# Altium footprint library R8 Bran.PcbLib: 70 footprints (part 4 of 5)
Each footprint in its own frame and in the unit in brackets; x right, y up, seen from the top. Pads: shape width x height; smd on the part's side, far side on the other; paste and mask are expansions set on the pad; w line width, h text height; cw(c..) or ccw(c..) is an arc to the next point about the centre after c.
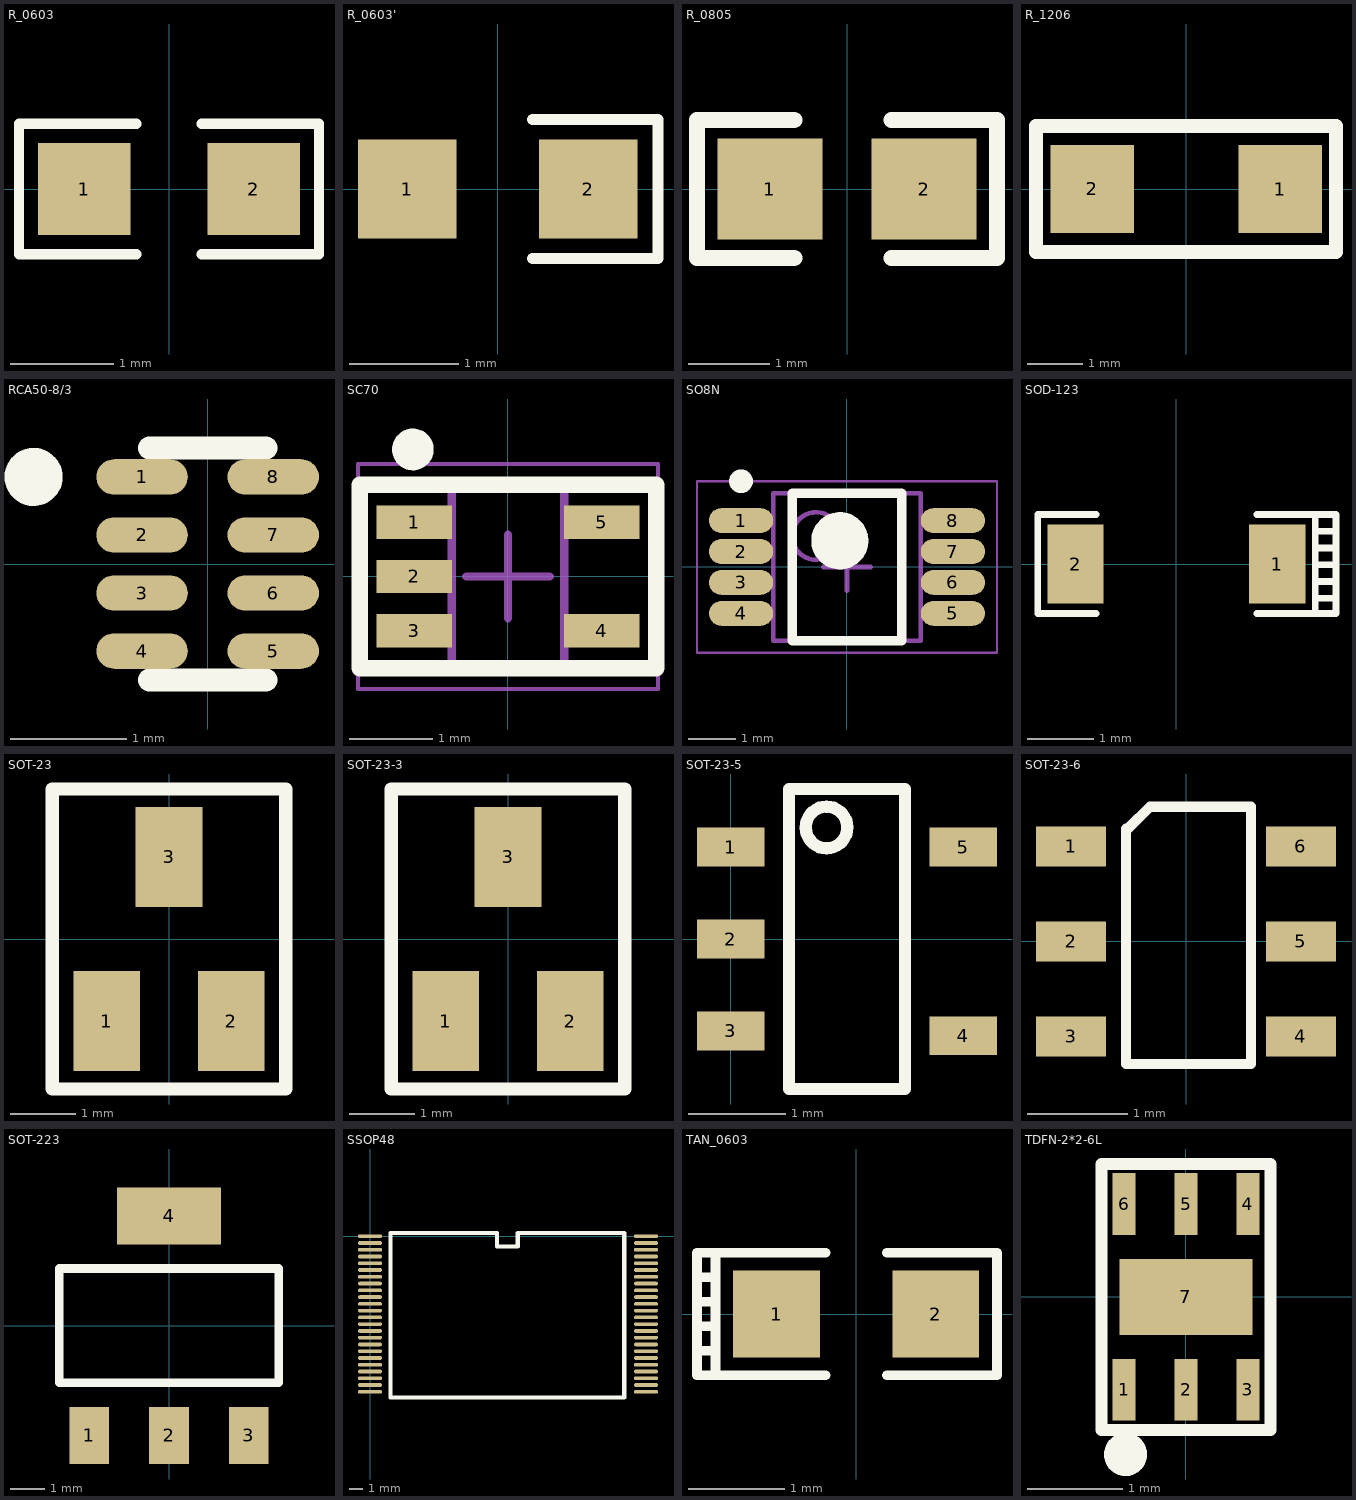
[diagram p3: the footprints below, top view; thin cyan lines are the x and y axes]

## R_0603 [mm]
pads (2):
  rect 0.9x0.9 smd: 1(-0.826,0) 2(0.826,0)
Top Overlay:
  lines w0.102: -0.318,-0.635 -1.46,-0.635 -1.46,0.635 -0.318,0.635 ; 0.318,-0.635 1.46,-0.635 1.46,0.635 0.318,0.635
3D body: height 0.9, standoff 0, extent -1.377,-0.552 1.377,0.552

## R_0603' [mm]
pads (2):
  rect 0.9x0.9 smd: 1(-0.826,0) 2(0.826,0)
Top Overlay:
  lines w0.102: 0.318,-0.635 1.46,-0.635 1.46,0.635 0.318,0.635
3D body: height 0.9, standoff 0, extent -1.377,-0.552 1.377,0.552

## R_0805 [mm]
pads (2):
  rect 1.3x1.25 smd: 1(-0.95,0) 2(0.95,0)
Top Overlay:
  lines w0.2: -0.65,-0.85 -1.85,-0.85 -1.85,0.85 -0.65,0.85 ; 0.55,-0.85 1.85,-0.85 1.85,0.85 0.55,0.85
3D body: height 0.6, standoff 0, extent -1.702,-0.727 1.702,0.727

## R_1206 [mm]
height 0.8
pads (2):
  rect 1.52x1.6 smd: 1(1.71,0) 2(-1.71,0)
Top Overlay:
  lines w0.254: -2.735,-1.143 2.726,-1.143 2.726,1.143 -2.735,1.143 -2.735,-1.143
3D body: height 0.9, standoff 0, extent -2.572,-0.902 2.572,0.902

## RCA50-8/3 [mil]
pads (8):
  oval 31x12 smd: 1(-22.23,29.53) 2(-22.23,9.84) 3(-22.23,-9.84) 4(-22.23,-29.53) 5(22.25,-29.53) 6(22.25,-9.84) 7(22.25,9.84) 8(22.25,29.53)
Top Overlay:
  circle w9.84: c-59.05,29.53 r4.93
  circle w9.84: c-59.05,29.53 r4.93
  lines w7.87: -19.68,-39.37 19.69,-39.37 ; -19.68,39.37 19.69,39.37 ; -14.76,-39.37 14.77,-39.37 ; -14.76,39.37 14.77,39.37
3D body: height 11.81, standoff 0, extent -41.73,-39.53 41.75,39.53

## SC70 [mm]
pads (5):
  rect 0.9x0.4 smd: 1(-1.125,0.65) 2(-1.125,0) 3(-1.125,-0.65) 4(1.125,-0.65) 5(1.125,0.65)
Top Overlay:
  circle w0.25: c-1.141,1.524 r0.125
  lines w0.2: -1.778,-1.1 -1.778,1.1 1.778,1.1 1.778,-1.1 -1.778,-1.1
Mechanical 13:
  lines w0.1: -0.675,-1.1 0.675,-1.1 0.675,1.1 -0.675,1.1 -0.675,-1.1
Mechanical 15:
  lines w0.05: -1.8,-1.35 1.8,-1.35 1.8,1.35 -1.8,1.35 -1.8,-1.35
  lines w0.1: -0.5,0 0.5,0 ; 0,-0.5 0,0.5
3D body: height 1.1, standoff 0, extent -0.675,-1.1 0.675,1.1

## SO8N [mm] "TSOP, 8-Leads, Body 3.00x3.00mm, Pitch 0.65mm, IPC Medium Density"
height 1.1
pads (8):
  oval 1.35x0.52 smd: 1(-2.225,0.975) 2(-2.225,0.325) 3(-2.225,-0.325) 4(-2.225,-0.975) 5(2.225,-0.975) 6(2.225,-0.325) 7(2.225,0.325) 8(2.225,0.975)
Top Overlay:
  circle w0.6: c-0.15,0.55 r0.3
  circle w0.25: c-2.225,1.8 r0.125
  lines w0.2: -1.15,-1.55 1.15,-1.55 1.15,1.55 -1.15,1.55 -1.15,-1.55
Mechanical 13:
  circle w0.1: c-0.65,0.65 r0.5
  lines w0.1: -1.55,-1.55 1.55,-1.55 1.55,1.55 -1.55,1.55 -1.55,-1.55
Mechanical 15:
  lines w0.05: -3.15,-1.8 3.15,-1.8 3.15,1.8 -3.15,1.8 -3.15,-1.8
  lines w0.1: -0.5,0 0.5,0 ; 0,-0.5 0,0.5
3D body: height 1.1, standoff 0.05, extent -1.55,-1.55 1.55,1.55

## SOD-123 [mm]
pads (2):
  rect 0.85x1.2 smd: 1(1.525,0) 2(-1.525,0)
Top Overlay:
  lines w0.102: -1.215,-0.75 -2.1,-0.75 -2.1,0.75 -1.215,0.75 ; 1.215,-0.75 2.1,-0.75 ; 1.215,0.75 2.1,0.75 ; 2.1,-0.52 2.414,-0.52 ; 2.1,-0.266 2.414,-0.266 ; 2.1,-0.012 2.414,-0.012 ; 2.1,0.242 2.414,0.242 ; 2.1,0.496 2.414,0.496 ; 2.1,-0.75 2.414,-0.75 2.414,0.75 2.1,0.75 ; 2.1,-0.75 2.1,0.75
3D body: height 0.8, standoff 0, extent -2.052,-0.702 2.052,0.702

## SOT-23 [mil]
pads (3):
  rect 40x60 smd: 1(-37.4,-49.21) 2(37.4,-49.21) 3(0,49.21)
Top Overlay:
  lines w8: -70,-90 -70,90 70,90 70,-90 -70,-90
3D body: height 39.37, standoff 0, extent -61.4,-83.21 61.4,83.21

## SOT-23-3 [mil]
pads (3):
  rect 40x60 smd: 1(-37.4,-49.21) 2(37.4,-49.21) 3(0,49.21)
Top Overlay:
  lines w8: -70,-90 70,-90 70,90 -70,90 -70,-90
3D body: height 39.37, standoff 0, extent -61.4,-83.21 61.4,83.21

## SOT-23-5 [mm]
pads (5):
  rect 0.7x0.4 smd: 1(0,0.95) 2(0,0) 3(0,-0.95) 4(2.4,-1) 5(2.4,0.95)
Top Overlay:
  lines w0.127: 0.6,-1.55 0.6,1.55 1.8,1.55 1.8,-1.55 0.6,-1.55 ; 0.786,1.226 ccw(c0.994,1.155) 0.915,0.949 ccw(c0.988,1.152) 0.786,1.226
3D body: height 1.25, standoff 0, extent -0.452,-1.302 2.852,1.252

## SOT-23-6 [mm]
pads (6):
  rect 0.7x0.4 smd: 1(-1.15,0.95) 2(-1.15,0) 3(-1.15,-0.95) 4(1.15,-0.95) 5(1.15,0) 6(1.15,0.95)
Top Overlay:
  lines w0.102: -0.601,-1.226 0.649,-1.226 0.649,1.346 -0.36,1.346 -0.577,1.13 -0.601,1.13 -0.601,-1.226
3D body: height 1.45, standoff 0, extent -1.602,-1.252 1.602,1.252

## SOT-223 [mil]
pads (4):
  rect 45x65 smd: 1(-91,-125) 2(0,-125) 3(91,-125)
  rect 118x65 smd: 4(0,125)
Top Overlay:
  lines w10: -125,-65 125,-65 125,65 -125,65 -125,-65

## SSOP48 [mm]
pads (48):
  oval 1.778x0.275 smd: 1(0,0) 2(0,-0.5) 3(0,-1) 4(0,-1.5) 5(0,-2) 6(0,-2.5) 7(0,-3) 8(0,-3.5) 9(0,-4) 10(0,-4.5) 11(0,-5) 12(0,-5.5) 13(0,-6) 14(0,-6.5) 15(0,-7) 16(0,-7.5) 17(0,-8) 18(0,-8.5) 19(0,-9) 20(0,-9.5) 21(0,-10) 22(0,-10.5) 23(0,-11) 24(0,-11.5) 25(20.4,-11.5) 26(20.4,-11) 27(20.4,-10.5) 28(20.4,-10) 29(20.4,-9.5) 30(20.4,-9) 31(20.4,-8.5) 32(20.4,-8) 33(20.4,-7.5) 34(20.4,-7) 35(20.4,-6.5) 36(20.4,-6) 37(20.4,-5.5) 38(20.4,-5) 39(20.4,-4.5) 40(20.4,-4) 41(20.4,-3.5) 42(20.4,-3) 43(20.4,-2.5) 44(20.4,-2) 45(20.4,-1.5) 46(20.4,-1) 47(20.4,-0.5) 48(20.4,0)
Top Overlay:
  lines w0.3: 1.524,-11.938 18.796,-11.938 18.796,0.254 10.922,0.254 10.922,-0.762 9.398,-0.762 9.398,0.254 1.524,0.254 1.524,-11.938

## TAN_0603 [mm]
pads (2):
  rect 0.9x0.9 smd: 1(-0.826,0) 2(0.826,0)
Top Overlay:
  lines w0.102: -1.651,-0.127 -1.46,-0.127 ; -1.587,-0.381 -1.46,-0.381 ; -1.587,0.127 -1.46,0.127 ; -1.587,0.381 -1.46,0.381 ; -1.397,-0.635 -1.651,-0.635 -1.651,0.635 -1.46,0.635 ; -0.318,-0.635 -1.46,-0.635 -1.46,0.635 ; -0.318,0.635 -1.46,0.635 ; 0.318,-0.635 1.46,-0.635 1.46,0.635 0.318,0.635
3D body: height 0.9, standoff 0, extent -1.377,-0.552 1.377,0.552

## TDFN-2*2-6L [mm]
pads (7):
  rect 0.24x0.65 smd: 1(-0.65,-0.975) 2(0,-0.975) 3(0.65,-0.975) 4(0.65,0.975) 5(0,0.975) 6(-0.65,0.975)
  rect 1.4x0.8 smd: 7(0,0)
Top Overlay:
  circle w0.254: c-0.635,-1.655 r0.1
  lines w0.127: -0.889,-1.397 -0.889,1.397 -0.508,1.397 0.508,1.397 0.889,1.397 0.889,-1.397 -0.889,-1.397